# EAGLE library part MCP2551-E_SN (library UWAFT_Parts)
CAN Transceiver 1Mbit/s ISO 11898 Sleep, Standby-Mode 8pins SOIC Source: Datasheet <http://docs-europe.electrocomponents.com/webdocs/1169/0900766b811693da.pdf>
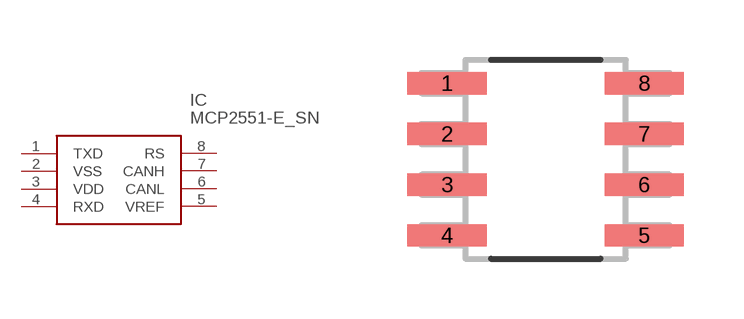
[diagram p0: symbol with the pads of SOIC127P600X175-8N; footprint SOIC127P600X175-8N]

Designator prefix IC

## MCP2551-E_SN (ALLIED_NUMBER: 70046882; ALLIED_PRICE-STOCK: http://www.alliedelec.com/microchip-technology-inc-mcp2551-e-sn/70046882/; ARROW_PART_NUMBER: MCP2551-E/SN; ARROW_PRICE-STOCK: https://www.arrow.com/en/products/mcp2551-esn/microchip-technology; DESCRIPTION: CAN Transceiver 1Mbit/s ISO 11898 Sleep, Standby-Mode 8pins SOIC; HEIGHT: 1.75mm; MANUFACTURER_NAME: Microchip; MANUFACTURER_PART_NUMBER: MCP2551-E/SN; RS_PART_NUMBER: 7707767P; RS_PRICE-STOCK: http://uk.rs-online.com/web/p/products/7707767P)  [SOIC127P600X175-8N]
1  TXD
2  VSS  pwr
3  VDD  pwr
4  RXD
5  VREF  in
6  CANL
7  CANH
8  RS

## Footprint SOIC127P600X175-8N (pad centres in mm)
SOIC127P600X175-8N
smd 1.981 x 0.559: 1 -2.464,1.905; 2 -2.464,0.635; 3 -2.464,-0.635; 4 -2.464,-1.905; 5 2.464,-1.905; 6 2.464,-0.635; 7 2.464,0.635; 8 2.464,1.905